# Altium schematic symbol library SCH - MCU - TI - TI MSPM0G151X LQFP-100 PFA.SchLib: 1 symbol
Pins are listed as number, name and electrical type; pins without a type are passive.

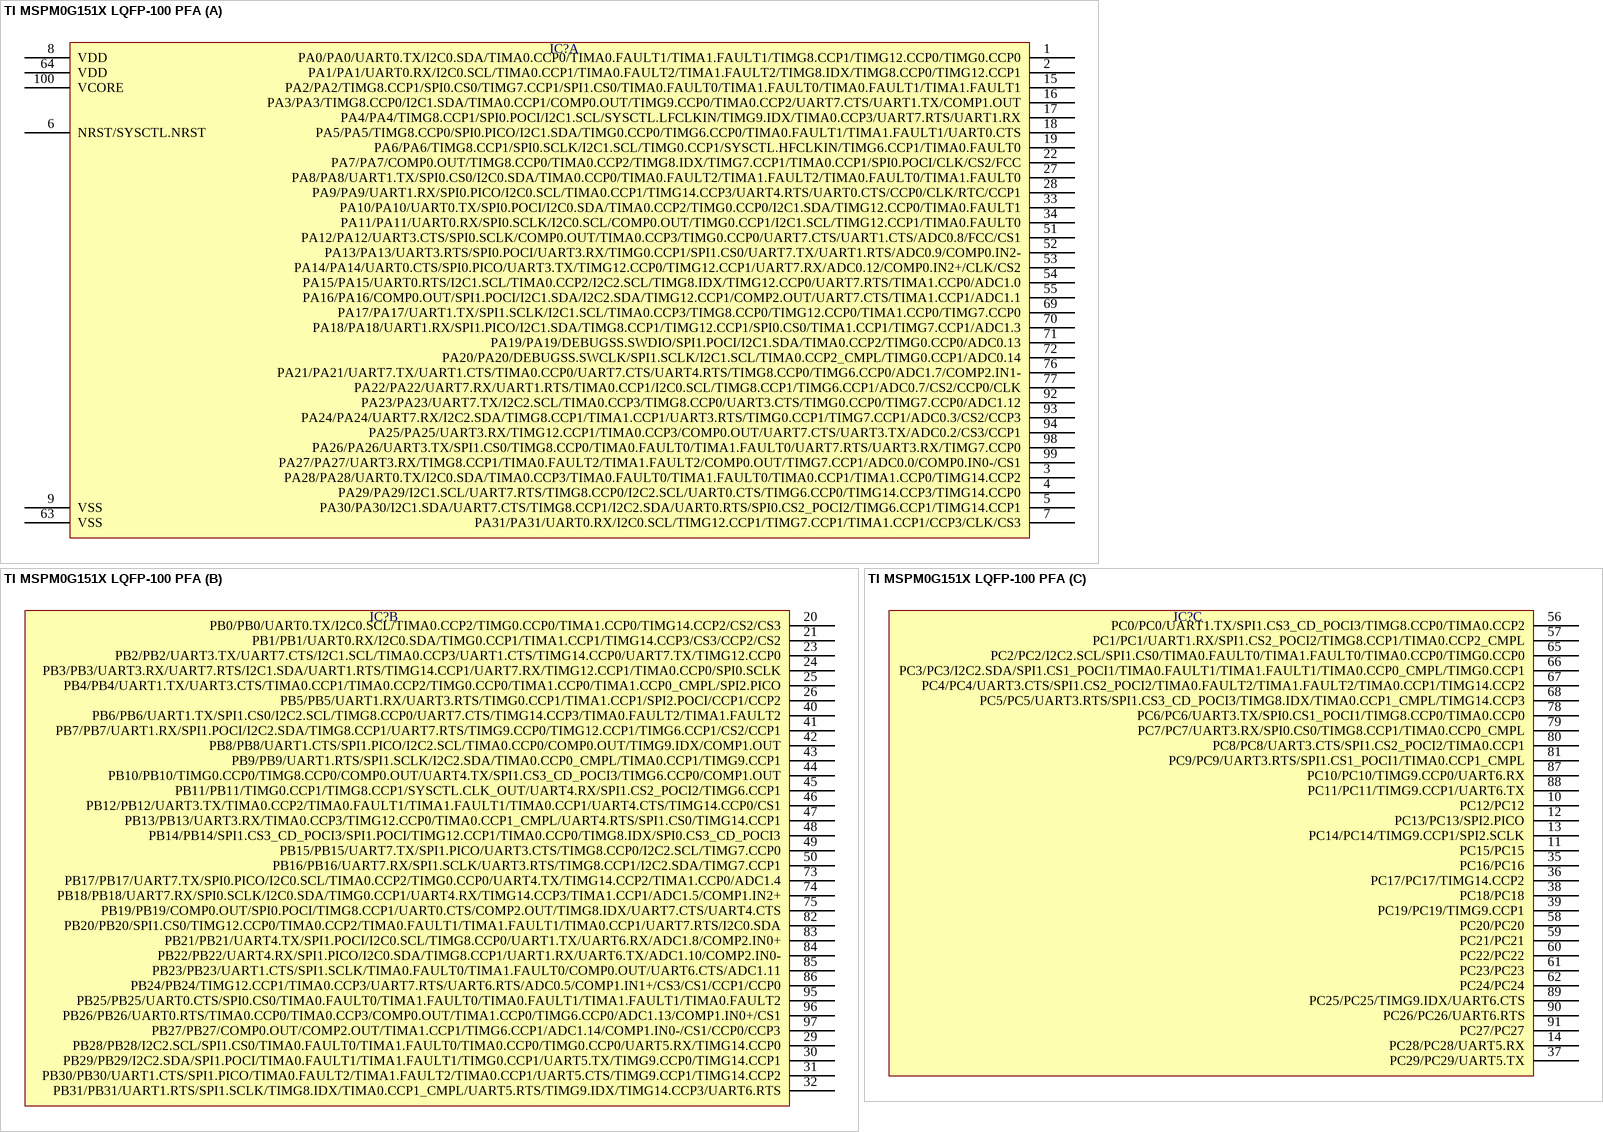
[diagram p0: symbol TI MSPM0G151X LQFP-100 PFA]

## TI MSPM0G151X LQFP-100 PFA
designator IC?  (value not drawn)
part A pins: 1 PA0/PA0/UART0.TX/I2C0.SDA/TIMA0.CCP0/TIMA0.FAULT1/TIMA1.FAULT1/TIMG8.CCP1/TIMG12.CCP0/TIMG0.CCP0, 2 PA1/PA1/UART0.RX/I2C0.SCL/TIMA0.CCP1/TIMA0.FAULT2/TIMA1.FAULT2/TIMG8.IDX/TIMG8.CCP0/TIMG12.CCP1, 3 PA28/PA28/UART0.TX/I2C0.SDA/TIMA0.CCP3/TIMA0.FAULT0/TIMA1.FAULT0/TIMA0.CCP1/TIMA1.CCP0/TIMG14.CCP2, 4 PA29/PA29/I2C1.SCL/UART7.RTS/TIMG8.CCP0/I2C2.SCL/UART0.CTS/TIMG6.CCP0/TIMG14.CCP3/TIMG14.CCP0, 5 PA30/PA30/I2C1.SDA/UART7.CTS/TIMG8.CCP1/I2C2.SDA/UART0.RTS/SPI0.CS2_POCI2/TIMG6.CCP1/TIMG14.CCP1, 6 NRST/SYSCTL.NRST, 7 PA31/PA31/UART0.RX/I2C0.SCL/TIMG12.CCP1/TIMG7.CCP1/TIMA1.CCP1/CCP3/CLK/CS3, 8 VDD, 9 VSS, 15 PA2/PA2/TIMG8.CCP1/SPI0.CS0/TIMG7.CCP1/SPI1.CS0/TIMA0.FAULT0/TIMA1.FAULT0/TIMA0.FAULT1/TIMA1.FAULT1, 16 PA3/PA3/TIMG8.CCP0/I2C1.SDA/TIMA0.CCP1/COMP0.OUT/TIMG9.CCP0/TIMA0.CCP2/UART7.CTS/UART1.TX/COMP1.OUT, 17 PA4/PA4/TIMG8.CCP1/SPI0.POCI/I2C1.SCL/SYSCTL.LFCLKIN/TIMG9.IDX/TIMA0.CCP3/UART7.RTS/UART1.RX, 18 PA5/PA5/TIMG8.CCP0/SPI0.PICO/I2C1.SDA/TIMG0.CCP0/TIMG6.CCP0/TIMA0.FAULT1/TIMA1.FAULT1/UART0.CTS, 19 PA6/PA6/TIMG8.CCP1/SPI0.SCLK/I2C1.SCL/TIMG0.CCP1/SYSCTL.HFCLKIN/TIMG6.CCP1/TIMA0.FAULT0, 22 PA7/PA7/COMP0.OUT/TIMG8.CCP0/TIMA0.CCP2/TIMG8.IDX/TIMG7.CCP1/TIMA0.CCP1/SPI0.POCI/CLK/CS2/FCC, 27 PA8/PA8/UART1.TX/SPI0.CS0/I2C0.SDA/TIMA0.CCP0/TIMA0.FAULT2/TIMA1.FAULT2/TIMA0.FAULT0/TIMA1.FAULT0, 28 PA9/PA9/UART1.RX/SPI0.PICO/I2C0.SCL/TIMA0.CCP1/TIMG14.CCP3/UART4.RTS/UART0.CTS/CCP0/CLK/RTC/CCP1, 33 PA10/PA10/UART0.TX/SPI0.POCI/I2C0.SDA/TIMA0.CCP2/TIMG0.CCP0/I2C1.SDA/TIMG12.CCP0/TIMA0.FAULT1, 34 PA11/PA11/UART0.RX/SPI0.SCLK/I2C0.SCL/COMP0.OUT/TIMG0.CCP1/I2C1.SCL/TIMG12.CCP1/TIMA0.FAULT0, 51 PA12/PA12/UART3.CTS/SPI0.SCLK/COMP0.OUT/TIMA0.CCP3/TIMG0.CCP0/UART7.CTS/UART1.CTS/ADC0.8/FCC/CS1, 52 PA13/PA13/UART3.RTS/SPI0.POCI/UART3.RX/TIMG0.CCP1/SPI1.CS0/UART7.TX/UART1.RTS/ADC0.9/COMP0.IN2-, 53 PA14/PA14/UART0.CTS/SPI0.PICO/UART3.TX/TIMG12.CCP0/TIMG12.CCP1/UART7.RX/ADC0.12/COMP0.IN2+/CLK/CS2, 54 PA15/PA15/UART0.RTS/I2C1.SCL/TIMA0.CCP2/I2C2.SCL/TIMG8.IDX/TIMG12.CCP0/UART7.RTS/TIMA1.CCP0/ADC1.0, 55 PA16/PA16/COMP0.OUT/SPI1.POCI/I2C1.SDA/I2C2.SDA/TIMG12.CCP1/COMP2.OUT/UART7.CTS/TIMA1.CCP1/ADC1.1, 63 VSS, 64 VDD, 69 PA17/PA17/UART1.TX/SPI1.SCLK/I2C1.SCL/TIMA0.CCP3/TIMG8.CCP0/TIMG12.CCP0/TIMA1.CCP0/TIMG7.CCP0, 70 PA18/PA18/UART1.RX/SPI1.PICO/I2C1.SDA/TIMG8.CCP1/TIMG12.CCP1/SPI0.CS0/TIMA1.CCP1/TIMG7.CCP1/ADC1.3, 71 PA19/PA19/DEBUGSS.SWDIO/SPI1.POCI/I2C1.SDA/TIMA0.CCP2/TIMG0.CCP0/ADC0.13, 72 PA20/PA20/DEBUGSS.SWCLK/SPI1.SCLK/I2C1.SCL/TIMA0.CCP2_CMPL/TIMG0.CCP1/ADC0.14, 76 PA21/PA21/UART7.TX/UART1.CTS/TIMA0.CCP0/UART7.CTS/UART4.RTS/TIMG8.CCP0/TIMG6.CCP0/ADC1.7/COMP2.IN1-, 77 PA22/PA22/UART7.RX/UART1.RTS/TIMA0.CCP1/I2C0.SCL/TIMG8.CCP1/TIMG6.CCP1/ADC0.7/CS2/CCP0/CLK, 92 PA23/PA23/UART7.TX/I2C2.SCL/TIMA0.CCP3/TIMG8.CCP0/UART3.CTS/TIMG0.CCP0/TIMG7.CCP0/ADC1.12, 93 PA24/PA24/UART7.RX/I2C2.SDA/TIMG8.CCP1/TIMA1.CCP1/UART3.RTS/TIMG0.CCP1/TIMG7.CCP1/ADC0.3/CS2/CCP3, 94 PA25/PA25/UART3.RX/TIMG12.CCP1/TIMA0.CCP3/COMP0.OUT/UART7.CTS/UART3.TX/ADC0.2/CS3/CCP1, 98 PA26/PA26/UART3.TX/SPI1.CS0/TIMG8.CCP0/TIMA0.FAULT0/TIMA1.FAULT0/UART7.RTS/UART3.RX/TIMG7.CCP0, 99 PA27/PA27/UART3.RX/TIMG8.CCP1/TIMA0.FAULT2/TIMA1.FAULT2/COMP0.OUT/TIMG7.CCP1/ADC0.0/COMP0.IN0-/CS1, 100 VCORE
part B pins: 20 PB0/PB0/UART0.TX/I2C0.SCL/TIMA0.CCP2/TIMG0.CCP0/TIMA1.CCP0/TIMG14.CCP2/CS2/CS3, 21 PB1/PB1/UART0.RX/I2C0.SDA/TIMG0.CCP1/TIMA1.CCP1/TIMG14.CCP3/CS3/CCP2/CS2, 23 PB2/PB2/UART3.TX/UART7.CTS/I2C1.SCL/TIMA0.CCP3/UART1.CTS/TIMG14.CCP0/UART7.TX/TIMG12.CCP0, 24 PB3/PB3/UART3.RX/UART7.RTS/I2C1.SDA/UART1.RTS/TIMG14.CCP1/UART7.RX/TIMG12.CCP1/TIMA0.CCP0/SPI0.SCLK, 25 PB4/PB4/UART1.TX/UART3.CTS/TIMA0.CCP1/TIMA0.CCP2/TIMG0.CCP0/TIMA1.CCP0/TIMA1.CCP0_CMPL/SPI2.PICO, 26 PB5/PB5/UART1.RX/UART3.RTS/TIMG0.CCP1/TIMA1.CCP1/SPI2.POCI/CCP1/CCP2, 29 PB28/PB28/I2C2.SCL/SPI1.CS0/TIMA0.FAULT0/TIMA1.FAULT0/TIMA0.CCP0/TIMG0.CCP0/UART5.RX/TIMG14.CCP0, 30 PB29/PB29/I2C2.SDA/SPI1.POCI/TIMA0.FAULT1/TIMA1.FAULT1/TIMG0.CCP1/UART5.TX/TIMG9.CCP0/TIMG14.CCP1, 31 PB30/PB30/UART1.CTS/SPI1.PICO/TIMA0.FAULT2/TIMA1.FAULT2/TIMA0.CCP1/UART5.CTS/TIMG9.CCP1/TIMG14.CCP2, 32 PB31/PB31/UART1.RTS/SPI1.SCLK/TIMG8.IDX/TIMA0.CCP1_CMPL/UART5.RTS/TIMG9.IDX/TIMG14.CCP3/UART6.RTS, 40 PB6/PB6/UART1.TX/SPI1.CS0/I2C2.SCL/TIMG8.CCP0/UART7.CTS/TIMG14.CCP3/TIMA0.FAULT2/TIMA1.FAULT2, 41 PB7/PB7/UART1.RX/SPI1.POCI/I2C2.SDA/TIMG8.CCP1/UART7.RTS/TIMG9.CCP0/TIMG12.CCP1/TIMG6.CCP1/CS2/CCP1, 42 PB8/PB8/UART1.CTS/SPI1.PICO/I2C2.SCL/TIMA0.CCP0/COMP0.OUT/TIMG9.IDX/COMP1.OUT, 43 PB9/PB9/UART1.RTS/SPI1.SCLK/I2C2.SDA/TIMA0.CCP0_CMPL/TIMA0.CCP1/TIMG9.CCP1, 44 PB10/PB10/TIMG0.CCP0/TIMG8.CCP0/COMP0.OUT/UART4.TX/SPI1.CS3_CD_POCI3/TIMG6.CCP0/COMP1.OUT, 45 PB11/PB11/TIMG0.CCP1/TIMG8.CCP1/SYSCTL.CLK_OUT/UART4.RX/SPI1.CS2_POCI2/TIMG6.CCP1, 46 PB12/PB12/UART3.TX/TIMA0.CCP2/TIMA0.FAULT1/TIMA1.FAULT1/TIMA0.CCP1/UART4.CTS/TIMG14.CCP0/CS1, 47 PB13/PB13/UART3.RX/TIMA0.CCP3/TIMG12.CCP0/TIMA0.CCP1_CMPL/UART4.RTS/SPI1.CS0/TIMG14.CCP1, 48 PB14/PB14/SPI1.CS3_CD_POCI3/SPI1.POCI/TIMG12.CCP1/TIMA0.CCP0/TIMG8.IDX/SPI0.CS3_CD_POCI3, 49 PB15/PB15/UART7.TX/SPI1.PICO/UART3.CTS/TIMG8.CCP0/I2C2.SCL/TIMG7.CCP0, 50 PB16/PB16/UART7.RX/SPI1.SCLK/UART3.RTS/TIMG8.CCP1/I2C2.SDA/TIMG7.CCP1, 73 PB17/PB17/UART7.TX/SPI0.PICO/I2C0.SCL/TIMA0.CCP2/TIMG0.CCP0/UART4.TX/TIMG14.CCP2/TIMA1.CCP0/ADC1.4, 74 PB18/PB18/UART7.RX/SPI0.SCLK/I2C0.SDA/TIMG0.CCP1/UART4.RX/TIMG14.CCP3/TIMA1.CCP1/ADC1.5/COMP1.IN2+, 75 PB19/PB19/COMP0.OUT/SPI0.POCI/TIMG8.CCP1/UART0.CTS/COMP2.OUT/TIMG8.IDX/UART7.CTS/UART4.CTS, 82 PB20/PB20/SPI1.CS0/TIMG12.CCP0/TIMA0.CCP2/TIMA0.FAULT1/TIMA1.FAULT1/TIMA0.CCP1/UART7.RTS/I2C0.SDA, 83 PB21/PB21/UART4.TX/SPI1.POCI/I2C0.SCL/TIMG8.CCP0/UART1.TX/UART6.RX/ADC1.8/COMP2.IN0+, 84 PB22/PB22/UART4.RX/SPI1.PICO/I2C0.SDA/TIMG8.CCP1/UART1.RX/UART6.TX/ADC1.10/COMP2.IN0-, 85 PB23/PB23/UART1.CTS/SPI1.SCLK/TIMA0.FAULT0/TIMA1.FAULT0/COMP0.OUT/UART6.CTS/ADC1.11, 86 PB24/PB24/TIMG12.CCP1/TIMA0.CCP3/UART7.RTS/UART6.RTS/ADC0.5/COMP1.IN1+/CS3/CS1/CCP1/CCP0, 95 PB25/PB25/UART0.CTS/SPI0.CS0/TIMA0.FAULT0/TIMA1.FAULT0/TIMA0.FAULT1/TIMA1.FAULT1/TIMA0.FAULT2, 96 PB26/PB26/UART0.RTS/TIMA0.CCP0/TIMA0.CCP3/COMP0.OUT/TIMA1.CCP0/TIMG6.CCP0/ADC1.13/COMP1.IN0+/CS1, 97 PB27/PB27/COMP0.OUT/COMP2.OUT/TIMA1.CCP1/TIMG6.CCP1/ADC1.14/COMP1.IN0-/CS1/CCP0/CCP3
part C pins: 10 PC12/PC12, 11 PC15/PC15, 12 PC13/PC13/SPI2.PICO, 13 PC14/PC14/TIMG9.CCP1/SPI2.SCLK, 14 PC28/PC28/UART5.RX, 35 PC16/PC16, 36 PC17/PC17/TIMG14.CCP2, 37 PC29/PC29/UART5.TX, 38 PC18/PC18, 39 PC19/PC19/TIMG9.CCP1, 56 PC0/PC0/UART1.TX/SPI1.CS3_CD_POCI3/TIMG8.CCP0/TIMA0.CCP2, 57 PC1/PC1/UART1.RX/SPI1.CS2_POCI2/TIMG8.CCP1/TIMA0.CCP2_CMPL, 58 PC20/PC20, 59 PC21/PC21, 60 PC22/PC22, 61 PC23/PC23, 62 PC24/PC24, 65 PC2/PC2/I2C2.SCL/SPI1.CS0/TIMA0.FAULT0/TIMA1.FAULT0/TIMA0.CCP0/TIMG0.CCP0, 66 PC3/PC3/I2C2.SDA/SPI1.CS1_POCI1/TIMA0.FAULT1/TIMA1.FAULT1/TIMA0.CCP0_CMPL/TIMG0.CCP1, 67 PC4/PC4/UART3.CTS/SPI1.CS2_POCI2/TIMA0.FAULT2/TIMA1.FAULT2/TIMA0.CCP1/TIMG14.CCP2, 68 PC5/PC5/UART3.RTS/SPI1.CS3_CD_POCI3/TIMG8.IDX/TIMA0.CCP1_CMPL/TIMG14.CCP3, 78 PC6/PC6/UART3.TX/SPI0.CS1_POCI1/TIMG8.CCP0/TIMA0.CCP0, 79 PC7/PC7/UART3.RX/SPI0.CS0/TIMG8.CCP1/TIMA0.CCP0_CMPL, 80 PC8/PC8/UART3.CTS/SPI1.CS2_POCI2/TIMA0.CCP1, 81 PC9/PC9/UART3.RTS/SPI1.CS1_POCI1/TIMA0.CCP1_CMPL, 87 PC10/PC10/TIMG9.CCP0/UART6.RX, 88 PC11/PC11/TIMG9.CCP1/UART6.TX, 89 PC25/PC25/TIMG9.IDX/UART6.CTS, 90 PC26/PC26/UART6.RTS, 91 PC27/PC27